# EAGLE library part DS1881Z-050+ (library Ultrasonic Audio Amp)
Digital Potentiometers, Semiconductors and Actives
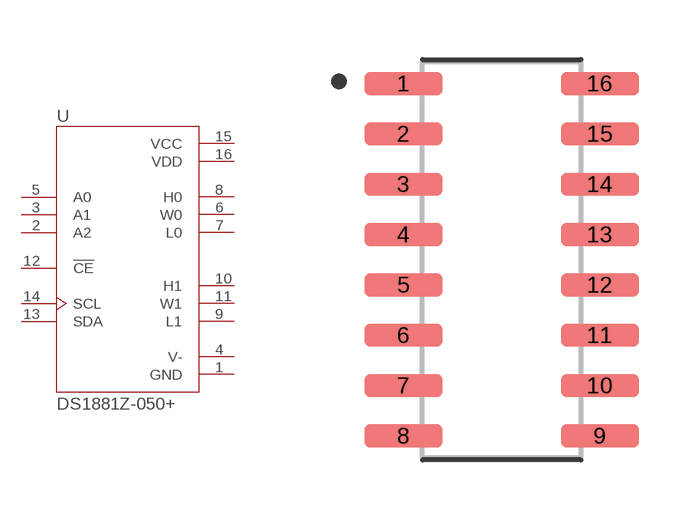
[diagram p1: symbol with the pads of 16-SOIC; footprint 16-SOIC]

Designator prefix U

## DS1881Z-050+ (DESCRIPTION: Digital Potentiometer 45k Ohm 2 Circuit 64 Taps I²C Interface 16-SO; DIGI-KEY_PART_NUMBER: DS1881Z-050+T&R-ND; DIGIKEY-PURCHASE-URL: https://snapeda.com/shop?store=DigiKey&id=473256; MF: Maxim Integrated; MP: DS1881Z-050+; PACKAGE: SOIC-16 Maxim)  [16-SOIC]
1  GND  pwr
2  A2  in
3  A1  in
4  V-  pwr
5  A0  in
6  W0  pas
7  L0  pas
8  H0  pas
9  L1  pas
10  H1  pas
11  W1  pas
12  !CE  in
13  SDA
14  SCL  in
15  VCC  pwr
16  VDD  pwr

## Footprint 16-SOIC (pad centres in mm)
smd 1.97 x 0.59: 1 -2.475,4.445; 2 -2.475,3.175; 3 -2.475,1.905; 4 -2.475,0.635; 5 -2.475,-0.635; 6 -2.475,-1.905; 7 -2.475,-3.175; 8 -2.475,-4.445; 9 2.475,-4.445; 10 2.475,-3.175; 11 2.475,-1.905; 12 2.475,-0.635; 13 2.475,0.635; 14 2.475,1.905; 15 2.475,3.175; 16 2.475,4.445